# Altium schematic symbol library SCH - ADC - TI ADS1292IRSMT.SchLib: 1 symbol
Pins are listed as number, name and electrical type; pins without a type are passive.

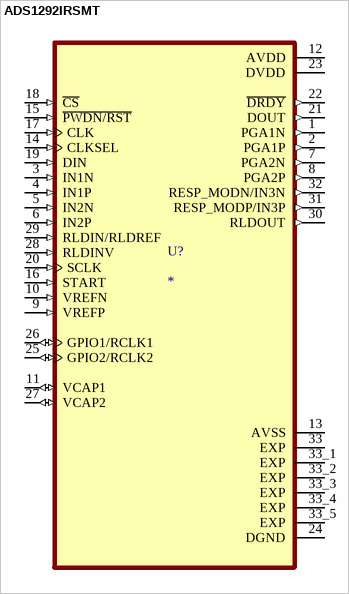
[diagram p0: symbol ADS1292IRSMT]

## ADS1292IRSMT
designator U?
24-bit, 2-ch, Low-Power Analog Front END (AFE) for ECG Applications; MP: ADS1292IRSMT; MF: Texas Instruments; Check_prices: https://www.snapeda.com/parts/ADS1292IRSMT/Texas+Instruments/view-part/?ref=eda; Value: *; SnapEDA_Link: https://www.snapeda.com/parts/ADS1292IRSMT/Texas+Instruments/view-part/?ref=snap; Availability: In Stock; Purchase-URL: https://pricing.snapeda.com/search/part/ADS1292IRSMT/?ref=eda; Price: None; Package: VQFN-32 Texas Instruments
footprint QFN40P400X400X100-33N
pins: 1 PGA1N (out), 2 PGA1P (out), 3 IN1N (in), 4 IN1P (in), 5 IN2N (in), 6 IN2P (in), 7 PGA2N (out), 8 PGA2P (out), 9 VREFP (in), 10 VREFN (in), 11 VCAP1 (io), 12 AVDD (power), 13 AVSS (power), 14 CLKSEL (in), 15 ~{PWDN/RST} (in), 16 START (in), 17 CLK (in), 18 ~{CS} (in), 19 DIN (in), 20 SCLK (in), 21 DOUT (out), 22 ~{DRDY} (out), 23 DVDD (power), 24 DGND (power), 25 GPIO2/RCLK2 (io), 26 GPIO1/RCLK1 (io), 27 VCAP2 (io), 28 RLDINV (in), 29 RLDIN/RLDREF (in), 30 RLDOUT (out), 31 RESP_MODP/IN3P (out), 32 RESP_MODN/IN3N (out), 33 EXP (power), 33_1 EXP (power), 33_2 EXP (power), 33_3 EXP (power), 33_4 EXP (power), 33_5 EXP (power)